# Altium footprint library CON SFV5R.PcbLib: 1 footprints
Each footprint in its own frame and in the unit in brackets; x right, y up, seen from the top. Pads: shape width x height; smd on the part's side, far side on the other; paste and mask are expansions set on the pad; w line width, h text height; cw(c..) or ccw(c..) is an arc to the next point about the centre after c.
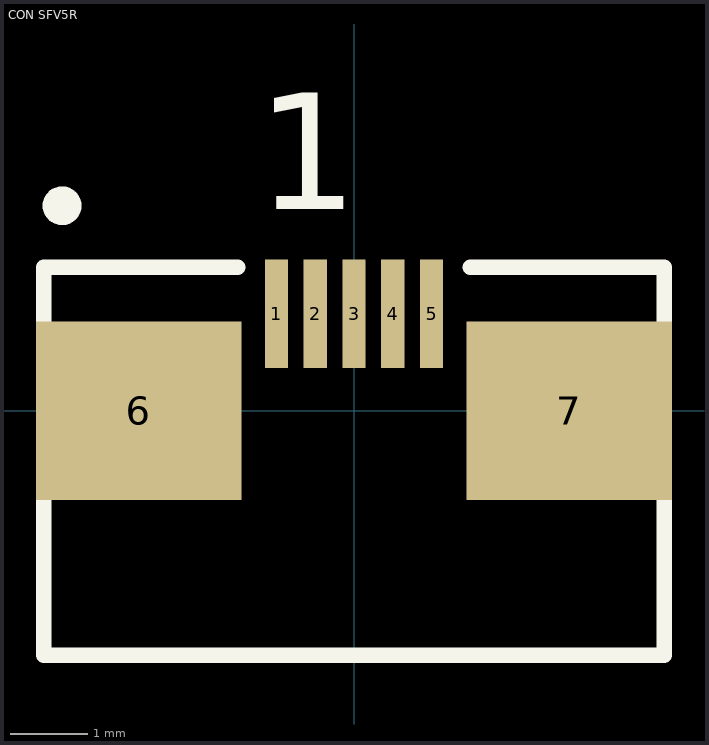
[diagram p0: the footprint, top view; thin cyan lines are the x and y axes]

## CON SFV5R [mm] "SMK CFP4605-150F Connector"
height 1.2
pads (7):
  rect 0.3x1.4 smd: 1(-1,1.25) 2(-0.5,1.25) 3(0,1.25) 4(0.5,1.25) 5(1,1.25)
  rect 2.65x2.3 smd: 6(-2.775,0) 7(2.775,0)
TopOverlay:
  circle w0.25: c-3.762,2.643 r0.125
  lines w0.2: -4,-1.085 -4,-3.15 4,-3.15 4,-1.085 ; -4,1.052 -4,1.85 -1.5,1.852 ; 1.5,1.85 4,1.85 4,1.052
  text "1" at -1.25,2.6 h1.5
3D body: height 1.9, standoff 0.03, extent -4,-3.225 4,1.675